# Altium schematic symbol library QUTMS_MolexLibrary.SchLib: 1 symbol
Pins are listed as number, name and electrical type; pins without a type are passive.

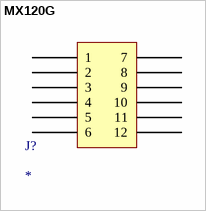
[diagram p0: symbol MX120G]

## MX120G
designator J?
MX120G with standard connector layout
footprint MX120G
pins: 1, 2, 3, 4, 5, 6, 7, 8, 9, 10, 11, 12